# EAGLE library part DUAL-POT (library p.peter-passives)
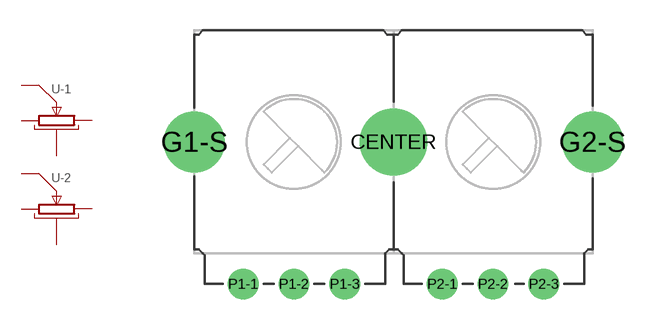
[diagram p0: symbol with the pads of POT-DUAL-P090; footprint POT-DUAL-P090]

Designator prefix -; gates -1=POTENTIOMETER -2=POTENTIOMETER

## DUAL-POT  [POT-DUAL-P090]
CENTER  -1:SHIELD
G1-S  -1:SHIELD
G2-S  -2:SHIELD
P1-1  -1:A
P1-2  -1:M
P1-3  -1:B
P2-1  -2:A
P2-2  -2:M
P2-3  -2:B

## Footprint POT-DUAL-P090 (pad centres in mm)
drill 2.3: CENTER 0,0
drill 2: G1-S -9.8,0; G2-S 9.8,0
drill 1: P1-1 -7.4,-7; P1-2 -4.9,-7; P1-3 -2.4,-7; P2-1 2.4,-7; P2-2 4.9,-7; P2-3 7.4,-7